# EAGLE library part LT8610A (library LT8610A)
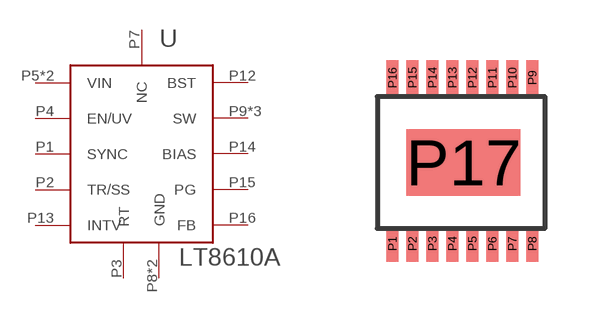
[diagram p0: symbol with the pads of MSOP16; footprint MSOP16]

Designator prefix -

## LT8610A  [MSOP16]
P1  SYNC
P2  TR/SS
P3  RT
P4  EN/UV
P5  VIN
P6  VIN
P7  NC
P8  GND
P9  SW
P10  SW
P11  SW
P12  BST
P13  INTV
P14  BIAS
P15  PG
P16  FB
P17  GND

## Footprint MSOP16 (pad centres in mm)
smd 0.305 x 0.889: P1 -1.778,-2.032; P2 -1.278,-2.032; P3 -0.778,-2.032; P4 -0.278,-2.032; P5 0.222,-2.032; P6 0.722,-2.032; P7 1.222,-2.032; P8 1.722,-2.032; P9 1.722,2.118; P10 1.222,2.118; P11 0.722,2.118; P12 0.222,2.118; P13 -0.278,2.118; P14 -0.778,2.118; P15 -1.278,2.118; P16 -1.778,2.118
smd 2.845 x 1.651: P17 0,0